# EAGLE library part ATTINY*5-? (library volks73-Atmel)
AVR® ATtiny2/4/85 Microcontroller Atmel 8-bit AVR Microcontroller with 2/4/8K Bytes In-System Programmable Flash Documentation Datasheet <http://www.atmel.com/images/atmel-2586-avr-8-bit-microcontroller-attiny25-attiny45-attiny85_datasheet.pdf> Features High Performance, Low Power AVR® 8-Bit Microcontroller Advanced RISC Architecture 120 Powerful Instructions – Most Single Clock Cycle Execution 32 x 8 General Purpose Working Registers Fully Static Operation Non-volatile Program and Data Memories 2/4/8K Bytes of In-System Programmable Program Memory Flash Endurance: 10,000 Write/Erase Cycles 128/256/512 Bytes In-System Programmable EEPROM Endurance: 100,000 Write/Erase Cycles 128/256/512 Bytes Internal SRAM Programming Lock for Self-Programming Flash Program and EEPROM Data Security Peripheral Features 8-bit Timer/Counter with Prescaler and Two PWM Channels 8-bit High Speed Timer/Counter with Separate Prescaler 2 High Frequency PWM Outputs with Separate Output Compare Registers Programmable Dead Time Generator USI – Universal Serial Interface with Start Condition Detector 10-bit ADC 4 Single Ended Channels 2 Differential ADC Channel Pairs with Programmable Gain (1x, 20x) Temperature Measurement Programmable Watchdog Timer with Separate On-chip Oscillator On-chip Analog Comparator Special Microcontroller Features debugWIRE On-chip Debug System In-System Programmable via SPI Port External and Internal Interrupt Sources Low Power Idle, ADC Noise Reduction, and Power-down Modes Enhanced Power-on Reset Circuit Programmable Brown-out Detection Circuit Internal Calibrated Oscillator I/O and Packages Six Programmable I/O Lines 8-pin PDIP, 8-pin SOIC, 20-pad QFN/MLF, and 8-pin TSSOP (only ATtiny45/V) Operating Voltage 1.8 - 5.5V for ATtiny25V/45V/85V 2.7 - 5.5V for ATtiny25/45/85 Speed Grade ATtiny25V/45V/85V: 0 – 4 MHz @ 1.8 - 5.5V, 0 - 10 MHz @ 2.7 - 5.5V ATtiny25/45/85: 0 – 10 MHz @ 2.7 - 5.5V, 0 - 20 MHz @ 4.5 - 5.5V Industrial Temperature Range Low Power Consumption Active Mode: 1 MHz, 1.8V: 300 μA Power-down Mode: 0.1 μA at 1.8V
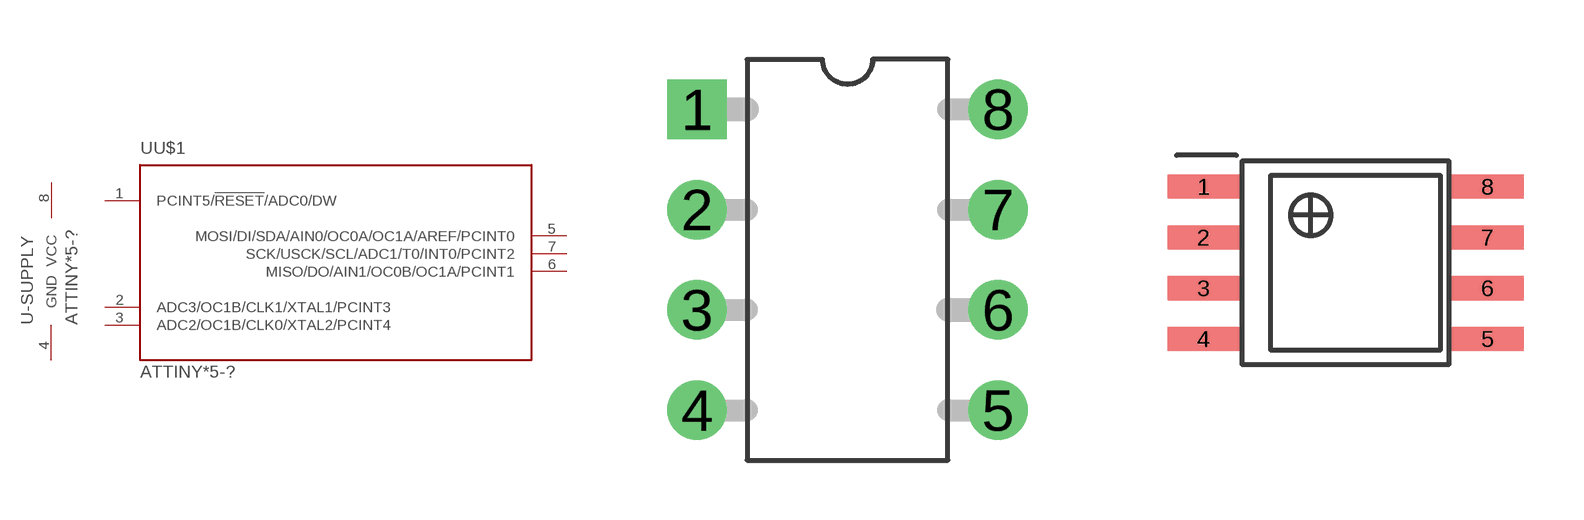
[diagram p0: symbol with the pads of DIP-8; footprints DIP-8, SOIC-8]

Designator prefix U; gates U$1=ATTINYX5 -SUPPLY=SUPPLY

## ATTINY85-20PU (CONNECTIVITY: USI; CORE_PROCESSOR: AVR; CORE_SIZE: 8-Bit; DATA_CONVERTERS: A/D 4x10b; DESCRIPTION: IC MCU 8BIT 8KB FLASH 8DIP; DOCUMENTATION_LINK: <a href="http://www.atmel.com/images/atmel-2586-avr-8-bit-microcontroller-attiny25-attiny45-attiny85_datasheet.pdf">Datasheet</a>; DOCUMENTATION_URL: http://www.atmel.com/images/atmel-2586-avr-8-bit-microcontroller-attiny25-attiny45-attiny85_datasheet.pdf; EEPROM_SIZE: 512 x 8; MANUFACTURER: Atmel; NUMBER_OF_IO: 6; OPERATING_TEMPERATURE: -40C ~ 85C; OSCILLATOR_TYPE: Internal; PACKAGE: 8-DIP (0.300", 7.62mm); PART_NUMBER: ATTINY85-20PU; PERIPHERALS: Brown-out Detect/Reset, POR, PWM, WDT; PROGRAM_MEMORY_SIZE: 8KB (4K x 16); PROGRAM_MEMORY_TYPE: FLASH; RAM_SIZE: 512 x 8; SPEED: 20MHz; SUPPLIER_DEVICE_PACKAGE: 8-PDIP; SUPPLIER_ITEM_LINK: <a href="http://www.digikey.com/product-detail/en/ATTINY85-20PU/ATTINY85-20PU-ND/735469">Details</a>; SUPPLIER_ITEM_NUMBER: ATTINY85-20PU-ND; SUPPLIER_ITEM_URL: http://www.digikey.com/product-detail/en/ATTINY85-20PU/ATTINY85-20PU-ND/735469; SUPPLIER_LINK: <a href="http://www.digikey.com">Home Page</a>; SUPPLIER_NAME: Digi-Key; SUPPLIER_URL: http://www.digikey.com; VOLTAGE-SUPPLY: 2.7 ~ 5.5V)  [DIP-8]
1  U$1:PCINT5/!RESET!/ADC0/DW
2  U$1:ADC3/OC1B/CLK1/XTAL1/PCINT3
3  U$1:ADC2/OC1B/CLK0/XTAL2/PCINT4
4  -SUPPLY:GND  pwr
5  U$1:MOSI/DI/SDA/AIN0/OC0A/OC1A/AREF/PCINT0
6  U$1:MISO/DO/AIN1/OC0B/OC1A/PCINT1
7  U$1:SCK/USCK/SCL/ADC1/T0/INT0/PCINT2
8  -SUPPLY:VCC  pwr

## ATTINY85-20SU (CATEGORY: Integrated Circuits (ICs); CONNECTIVITY: USI; CORE_PROCESSOR: AVR; CORE_SIZE: 8-Bit; DATA_CONVERTERS: A/D 4x10b; DESCRIPTION: IC MCU 8BIT 8KB FLASH 8SOIC; DOCUMENTATION_LINK: <a href="http://www.atmel.com/Images/Atmel-2586-AVR-8-bit-Microcontroller-ATtiny25-ATtiny45-ATtiny85_Datasheet.pdf">Datasheet</a>; DOCUMENTATION_URL: http://www.atmel.com/Images/Atmel-2586-AVR-8-bit-Microcontroller-ATtiny25-ATtiny45-ATtiny85_Datasheet.pdf; EEPROM_SIZE: 512 x 8; FAMILY: Embedded - Microcontrollers; MANUFACTURER: Atmel; NUMBER_OF_IO: 6; OPERATING_TEMPERATURE: -40°C ~ 85°C; OSCILLATOR_TYPE: Internal; PACKAGE: 8-SOIC (0.209", 5.30mm Width); PART_NUMBER: ATTINY85-20SU; PERIPHERALS: Brown-out Detect/Reset, POR, PWM, WDT; PROGRAM_MEMORY_SIZE: 8KB (4K x 16); PROGRAM_MEMORY_TYPE: FLASH; RAM_SIZE: 512 x 8; SERIES: AVR® ATtiny; SPEED: 20MHz; SUPPLIER_DEVICE_PACKAGE: 8-SOIC; SUPPLIER_ITEM_LINK: <a href="http://www.digikey.com/product-detail/en/ATTINY85-20SU/ATTINY85-20SU-ND/735470">Details</a>; SUPPLIER_ITEM_NUMBER: ATTINY85-20SU-ND; SUPPLIER_ITEM_URL: http://www.digikey.com/product-detail/en/ATTINY85-20SU/ATTINY85-20SU-ND/735470; SUPPLIER_LINK: <a href="http://www.digikey.com">Home Page</a>; SUPPLIER_NAME: Digi-Key; SUPPLIER_URL: http://www.digikey.com; VOLTAGE-SUPPLY: 2.7 V ~ 5.5 V)  [SOIC-8]
Pads as for DIP-8

## Footprint DIP-8 (pad centres in mm)
8-Pin Dual Inline Package (DIP) Lead Spacing = 0.100" (2.54mm) Wdith = 0.300" Note The reference outline is for a 8-Pin, Closed IC Socket from Assman WSW Components (Axx-LL-TT series).
drill 1 square: 1 -3.81,3.81
drill 1: 2 -3.81,1.27; 3 -3.81,-1.27; 4 -3.81,-3.81; 5 3.81,-3.81; 6 3.81,-1.27; 7 3.81,1.27; 8 3.81,3.81

## Footprint SOIC-8 (pad centres in mm)
8-Pin Small Outline Integrated Circuit (SOIC) Surface Mount Device Alternative Names 8S2
smd 1.8 x 0.6: 1 -3.55,1.905; 2 -3.55,0.635; 3 -3.55,-0.635; 4 -3.55,-1.905; 5 3.55,-1.905; 6 3.55,-0.635; 7 3.55,0.635; 8 3.55,1.905